# Altium footprint library PCB - MISC - QUARZ_9C.PCBLIB: 1 footprints
Each footprint in its own frame and in the unit in brackets; x right, y up, seen from the top. Pads: shape width x height; smd on the part's side, far side on the other; paste and mask are expansions set on the pad; w line width, h text height; cw(c..) or ccw(c..) is an arc to the next point about the centre after c.
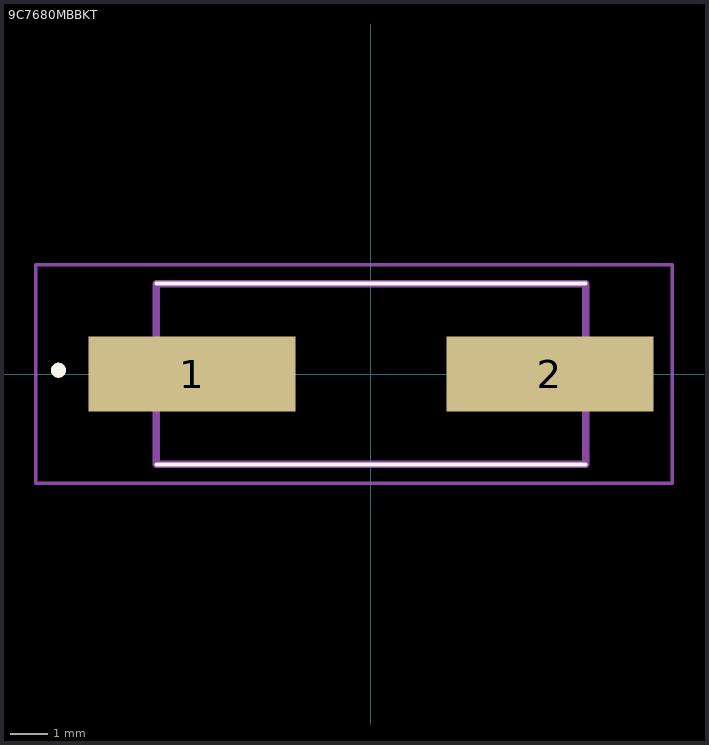
[diagram p0: the footprint, top view; thin cyan lines are the x and y axes]

## 9C7680MBBKT [mm]
pads (2):
  rect 5.5x2 smd: 1(-4.75,0) 2(4.75,0)
Top Overlay:
  lines w0.1: -5.7,-2.4 5.7,-2.4 ; -5.7,2.4 5.7,2.4
  lines w0.2: -8.3,0 ccw(c-8.3,0.1) -8.3,0.2 ccw(c-8.3,0.1) -8.3,0
Mechanical 13:
  lines w0.2: -5.7,-2.4 5.7,-2.4 5.7,2.4 -5.7,2.4 -5.7,-2.4
Mechanical 15:
  lines w0.1: -8.9,-2.9 8,-2.9 8,2.9 -8.9,2.9 -8.9,-2.9
3D body "9C-8.000MEEJ-T.stp": height 3.9, standoff 0, extent -7.3,-2.4 7.3,2.4